# Altium schematic symbol library LM61495RPHR.SchLib: 1 symbol
Pins are listed as number, name and electrical type; pins without a type are passive.

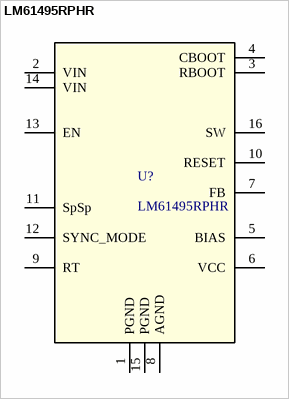
[diagram p0: symbol LM61495RPHR]

## LM61495RPHR
designator U?
10-A buck converter optimized for power density and low EMI 16-VQFN-HR -40 to 150; Manufacturer_Name: Texas Instruments; TYPE: TYPE; RefDes: RefDes; Copyright: Copyright (C) 2025 Ultra Librarian. All rights reserved.; Manufacturer_Part_Number: LM61495RPHR
footprint RPH0016A
pins: 1 PGND (power), 2 VIN (power), 3 RBOOT, 4 CBOOT, 5 BIAS, 6 VCC (power), 7 FB, 8 AGND (power), 9 RT, 10 RESET, 11 SpSp, 12 SYNC_MODE, 13 EN, 14 VIN (power), 15 PGND (power), 16 SW (power)